# Altium schematic symbol library INFINEON BFP640.SchLib: 1 symbol
Pins are listed as number, name and electrical type; pins without a type are passive.

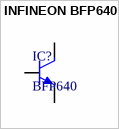
[diagram p0: symbol INFINEON BFP640]

## INFINEON BFP640
designator IC?, comment BFP640
NPN Silicon Germanium RF Transistor
pins: 1 B, 2 E, 3 C, 4 E